# EAGLE library part GNDOP_8 (library macros)
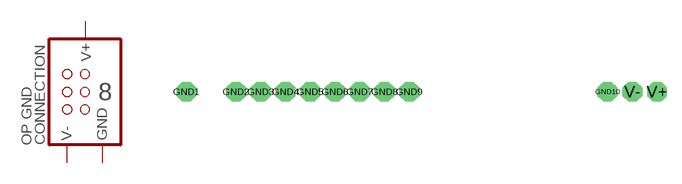
[diagram p7: symbol with the pads of GNDOP_8; footprint GNDOP_8]

Designator prefix $

## GNDOP_8  [GNDOP_8]
GND1  GND  pwr
GND2  GND  pwr
GND3  GND  pwr
GND4  GND  pwr
GND5  GND  pwr
GND6  GND  pwr
GND7  GND  pwr
GND8  GND  pwr
GND9  GND  pwr
GND10  GND  pwr
V+  V+  pwr
V-  V-  pwr

## Footprint GNDOP_8 (pad centres in mm)
drill 0.813 pad 2.032 octagon: GND1 0,0; GND2 5.08,0; GND3 7.62,0; GND4 10.16,0; GND5 12.7,0; GND6 15.24,0; GND7 17.78,0; GND8 20.32,0; GND9 22.86,0; GND10 43.18,0; V+ 48.26,0; V- 45.72,0